# EAGLE library part ROBERTSONICS_PCM5100 (library stm32f410rb_pcm5100)
PCM5100 Stereo DAC
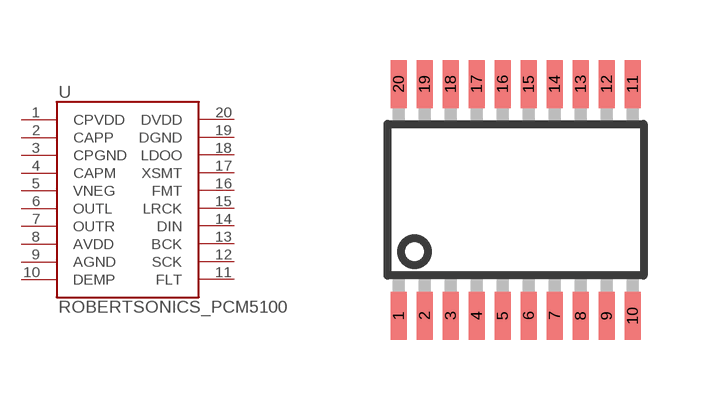
[diagram p3: symbol with the pads of ROBERTSONICS_PW_R-PDSO-G20; footprint ROBERTSONICS_PW_R-PDSO-G20]

Designator prefix -

## ROBERTSONICS_PCM5100  [ROBERTSONICS_PW_R-PDSO-G20]
1  CPVDD
2  CAPP
3  CPGND
4  CAPM
5  VNEG
6  OUTL
7  OUTR
8  AVDD
9  AGND
10  DEMP
11  FLT
12  SCK
13  BCK
14  DIN
15  LRCK
16  FMT
17  XSMT
18  LDOO
19  DGND
20  DVDD

## Footprint ROBERTSONICS_PW_R-PDSO-G20 (pad centres in mm)
PLASTIC SMALL-OUTLINE PACKAGE SO 20 JEDEC MO-153, PW Type Source: www.ti.com/.. slvs087l.pdf
smd 0.4 x 1.2: 1 -2.925,-2.9; 2 -2.275,-2.9; 3 -1.625,-2.9; 4 -0.975,-2.9; 5 -0.325,-2.9; 6 0.325,-2.9; 7 0.975,-2.9; 8 1.625,-2.9; 9 2.275,-2.9; 10 2.925,-2.9; 11 2.925,2.9; 12 2.275,2.9; 13 1.625,2.9; 14 0.975,2.9; 15 0.325,2.9; 16 -0.325,2.9; 17 -0.975,2.9; 18 -1.625,2.9; 19 -2.275,2.9; 20 -2.925,2.9